# EAGLE library part LM75 (library mastrogippo)
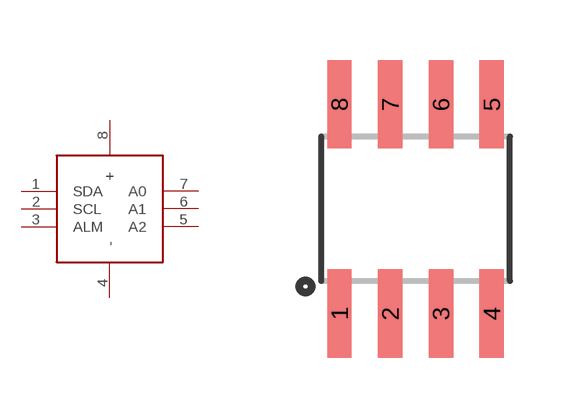
[diagram p46: symbol with the pads of SO08; footprint SO08]

Designator prefix -

## LM75  [SO08]
1  SDA
2  SCL
3  ALM
4  -
5  A2
6  A1
7  A0
8  +

## Footprint SO08 (pad centres in mm)
smd 0.61 x 2.21: 1 -1.905,-2.616; 2 -0.635,-2.616; 3 0.635,-2.616; 4 1.905,-2.616; 5 1.905,2.616; 6 0.635,2.616; 7 -0.635,2.616; 8 -1.905,2.616